# EAGLE library part PHOENIX_2POS (library phoenixConn_2POS)
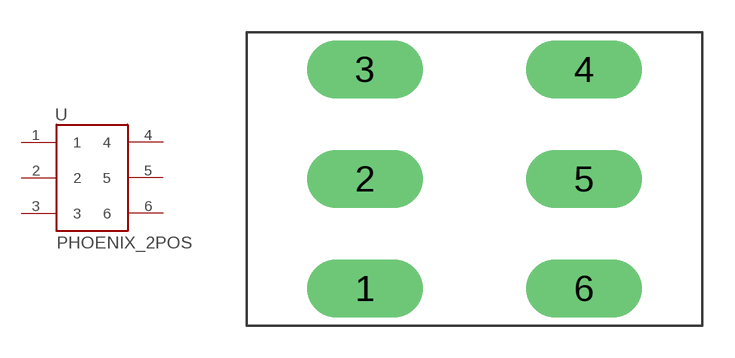
[diagram p0: symbol with the pads of PHOENIX_2POS; footprint PHOENIX_2POS]

Designator prefix -

## PHOENIX_2POS  [PHOENIX_2POS]
1  1
2  2
3  3
4  4
5  5
6  6

## Footprint PHOENIX_2POS (pad centres in mm)
drill 1.8 long: 1 5.48,1.72; 2 5.48,6.8; 3 5.48,11.88; 4 15.64,11.88; 5 15.64,6.8; 6 15.64,1.72